# Altium footprint library CFS0201MB.PcbLib: 1 footprints
Each footprint in its own frame and in the unit in brackets; x right, y up, seen from the top. Pads: shape width x height; smd on the part's side, far side on the other; paste and mask are expansions set on the pad; w line width, h text height; cw(c..) or ccw(c..) is an arc to the next point about the centre after c.
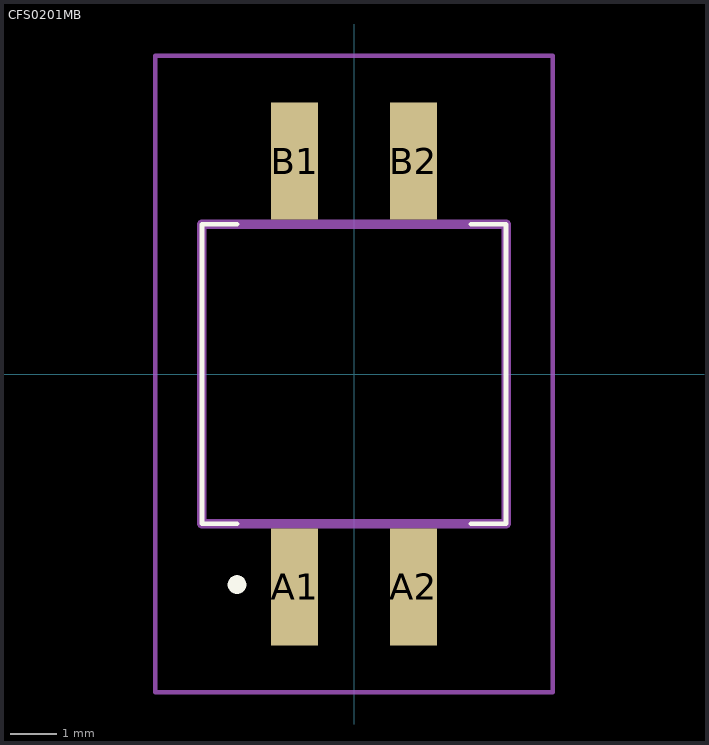
[diagram p0: the footprint, top view; thin cyan lines are the x and y axes]

## CFS0201MB [mm]
pads (4):
  rect 1x2.5 smd: A1(-1.27,-4.55) A2(1.27,-4.55) B1(-1.27,4.55) B2(1.27,4.55)
Top Overlay:
  lines w0.1: -2.5,-3.2 -3.25,-3.2 -3.25,3.2 -2.5,3.2 ; 2.5,-3.2 3.25,-3.2 3.25,3.2 2.5,3.2
  lines w0.2: -2.5,-4.6 cw(c-2.5,-4.5) -2.5,-4.4 ; -2.5,-4.6 -2.5,-4.6 ; -2.5,-4.6 ccw(c-2.5,-4.5) -2.5,-4.4 ; -2.5,-4.4 -2.5,-4.4
Mechanical 15:
  lines w0.2: -3.25,-3.2 3.25,-3.2 3.25,3.2 -3.25,3.2 -3.25,-3.2
Mechanical 20:
  lines w0.1: -4.25,-6.8 4.25,-6.8 4.25,6.8 -4.25,6.8 -4.25,-6.8